# Altium schematic symbol library MIC24052YJL-TR.SchLib: 2 symbols
Pins are listed as number, name and electrical type; pins without a type are passive.

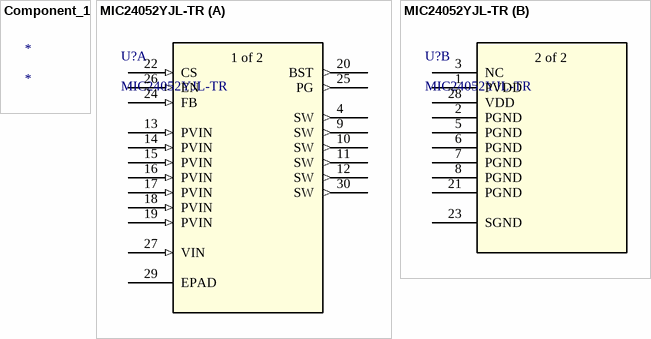
[diagram p0: symbols Component_1 to MIC24052YJL-TR]

## Component_1
designator *

## MIC24052YJL-TR
designator U?
No Description Available; Mfr_Name: Microchip; Copyright: Copyright (C) 2023 Ultra Librarian. All rights reserved.; Manufacturer_Part_Number: MIC24052YJL-TR; RefDes: RefDes; Type: DEV
footprint QFN28_5X6_MCH
part A pins: 4 SW (out), 9 SW (out), 10 SW (out), 11 SW (out), 12 SW (out), 13 PVIN (in), 14 PVIN (in), 15 PVIN (in), 16 PVIN (in), 17 PVIN (in), 18 PVIN (in), 19 PVIN (in), 20 BST (out), 22 CS (in), 24 FB (in), 25 PG (out), 26 EN (in), 27 VIN (in), 29 EPAD, 30 SW (out)
part B pins: 1 PVDD (power), 2 PGND (power), 3 NC, 5 PGND (power), 6 PGND (power), 7 PGND (power), 8 PGND (power), 21 PGND (power), 23 SGND (power), 28 VDD (power)
part A text: 1 of 2
part B text: 2 of 2